# Altium schematic symbol library R_C_L_D.SchLib: 17 symbols
Pins are listed as number, name and electrical type; pins without a type are passive.

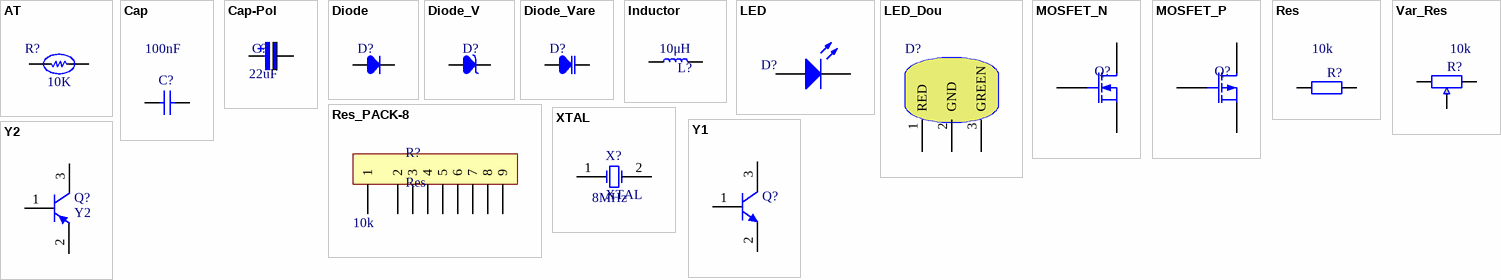
[diagram p0: symbols AT to Y2]

## AT
designator R?  value 10K  (hidden comment: AT)
热敏电阻; 精度: 1%; DCV: ~V; DCI: ~A; 温度系数α: *
footprint TO226-2 (2 In-Line Leads; Pitch 2.54 mm)
footprint 0805
pins: 1, 2

## Cap
designator C?  value 100nF  (hidden comment: Cap)
无极性电容; DCV: ~V; 温飘: ppm; 材质: ~; ESR: ~mΩ; IRMS: ~A; Published: 8-Jun-2000; LatestRevisionDate: 17-Jul-2002; LatestRevisionNote: Re-released for DXP Platform.; PackageReference: RAD-0.3; Publisher: Altium Limited; PackageDescription: Radial Cap, Thru-Hole; 2 Leads; 0.3 in Pin Spacing
footprint 0805
footprint 0201 ([0.9*0.3]mm)
footprint 0402 ([1.9*0.5]mm)
footprint 0603 ([2.54*0.8]mm)
footprint 1206 ([4.95*1.6]mm)
footprint 1210
footprint 2512 ([8.13*3.2]mm)
pins: 1, 2

## Cap-Pol
designator C?, comment value 22uF  (hidden comment: Capacitor)
极性电容; DCV: ~V; 材质: ~; 温飘: ~ppm; ESR: ~mΩ; IRMS: ~A; Published: 8-Jun-2000; LatestRevisionDate: 17-Jul-2002; LatestRevisionNote: Re-released for DXP Platform.; PackageReference: RB7.6-15; Publisher: Altium Limited
footprint C-RB-SD6 (贴片铝电解)
footprint C-RB-SD8 (贴片铝电解)
pins: 1, 2
1 alternate drawing of the same symbol

## Diode
designator D?  (value not drawn)
DCI: ~A; DCV: ~V; 压降: ~mV
footprint Diode_1206 ([4.95*1.6]mm)
footprint Diode_0805 (0805)
footprint DO-214AC
footprint DO-214AB
footprint DO-214AA
pins: 1, 2

## Diode_V
designator D?  (value not drawn)
稳压二极管; Value: ~V; DCI: ~A; DCV: ~V
footprint DO-214AC
footprint D-SMA (贴片二极管)
footprint Diode_0805 (0805)
footprint Diode_1206 ([4.95*1.6]mm)
footprint DO-214AC
footprint DO-214AB
pins: 1, 2

## Diode_Vare
designator D?  (value not drawn)
变容二极管; DCI: ~A; DCV: ~V; 压降: ~mV
footprint TO-92
pins: 1, 3

## Inductor
designator L?  value 10μH  (hidden comment: Inductor)
Code_IEC: 1005; DCI: ~A; 频率: ~kHz; DCR: ~mΩ; Published: 8-Jun-2000; LatestRevisionDate: 29-May-2009; LatestRevisionNote: IPC-7351 Footprint Added.; PackageReference: 0402-A; Publisher: Altium Limited; PackageDescription: Chip Inductor; Code_JEITA: 0402
footprint CD32 (3*3.5]mm)
footprint 0630 (一体成型电感)
footprint 1040 (一体成型电感)
footprint 0420 (一体成型电感)
footprint 0650 (一体成型电感)
pins: 1, 2

## LED
designator D?  (value not drawn)
发光二极管; DCV: ~V; DCI: ~mA; 颜色: R,G,B; Published: 8-Jun-2000; LatestRevisionDate: 08-Jul-2005; LatestRevisionNote: Mech Layer 1 removed.; PackageReference: LED-0; Publisher: Altium Limited
footprint LED-0805 (贴片LED)
footprint LED_0603 ([2.54*0.8]mm)
pins: 1 A, 2 K

## LED_Dou
designator D?, comment LED_Double  (value not drawn)
双色LED; 颜色: R&G; DCV: ~V; DCI: ~A
footprint HDR1X3 (Connector; Header; 3 Position)
pins: 1 RED, 2 GND, 3 GREEN

## MOSFET_N
designator Q?, comment MOSFET  (value not drawn)
MOS管N; Vds: ~V; Ids: ~A; Rds: ~mΩ
pins: 1 G, 2 D, 3 S

## MOSFET_P
designator Q?, comment MOSFET  (value not drawn)
MOS管P; Vds: ~V; Ids: ~A; Rds: ~mΩ
pins: 1 G, 2 D, 3 S

## Res
designator R?  value 10k  (hidden comment: Res)
Resistor; 功率: ~W; DCI: ~A; DCV: ~V; 精度: 1%; Published: 8-Jun-2000; LatestRevisionDate: 17-Jul-2002; LatestRevisionNote: Re-released for DXP Platform.; PackageReference: AXIAL-0.4; Publisher: Altium Limited; PackageDescription: Axial Device, Thru-Hole; 2 Leads; 0.4 in Pin Spacing
footprint 0805
footprint 0201 ([0.9*0.3]mm)
footprint 0402 ([1.9*0.5]mm)
footprint 1206 ([4.95*1.6]mm)
footprint 1210
footprint 2512 ([8.13*3.2]mm)
pins: 1, 2

## Res_PACK-8
designator R?, comment Res  value 10k
Res_PACK-8
footprint HDR1X9
pins: 1, 2, 3, 4, 5, 6, 7, 8, 9

## Var_Res
designator R?  value 10k  (hidden comment: Var_Res)
Variable_Resistor; 功率: ~W; DCI: ~A; DCV: ~V; 精度: 1%; Published: 8-Jun-2000; LatestRevisionDate: 17-Jul-2002; LatestRevisionNote: Re-released for DXP Platform.; PackageReference: AXIAL-0.4; Publisher: Altium Limited; PackageDescription: Axial Device, Thru-Hole; 2 Leads; 0.4 in Pin Spacing
pins: 1, 2, 3

## XTAL
designator X?  value 8MHz
晶振; Published: 8-Jun-2000; LatestRevisionDate: 17-Jul-2002; LatestRevisionNote: Re-released for DXP Platform.; PackageReference: R38; Publisher: Altium Limited; PackageDescription: Crystal, Thru-Hole; 2 Leads; Body 3.1 x 8.2 mm (Dia.xH)
footprint SM49
footprint 5032 (Crystal)
footprint LC-HC-49S
pins: 1 OSC1, 2 OSC2

## Y1
designator Q?  (value not drawn)
NPN三极管; 结电容: ~F; 电流放大倍数: ~; DCI: ~A; DCV: ~V; 耗散功率: ~W; 频率: ~Hz; LatestRevisionNote: PCB Footprint 'BCY-W3/D4.7' replaced; DatasheetDocument: 1997; PackageDocument: Sep-1998; PackageReference: TO-92A; Code_JEDEC: TO-92A; ComponentLink1Description: Manufacturer Link; ComponentLink2URL: http://www.fairchildsemi.com/ds/2N%2F2N3904.pdf
footprint SOT23-3
pins: 1 E, 2 B, 3 C

## Y2
designator Q?
PNP三极管; 结电容: ~; DCI: ~A; 耗散功率: ~W; 频率: ~Hz; DCV: ~V; DatasheetDocument: 1997; Code_JEDEC: TO-92A; ComponentLink1Description: Manufacturer Link; ComponentLink1URL: http://www.fairchildsemi.com/; ComponentLink2Description: Datasheet; ComponentLink2URL: http://www.fairchildsemi.com/ds/2N%2F2N3906.pdf; 电流放大倍数: ~
footprint SOT23-3
pins: 1 E, 2 B, 3 C